# Altium footprint library MyPCB1.pcblib: 4 footprints
Each footprint in its own frame and in the unit in brackets; x right, y up, seen from the top. Pads: shape width x height; smd on the part's side, far side on the other; paste and mask are expansions set on the pad; w line width, h text height; cw(c..) or ccw(c..) is an arc to the next point about the centre after c.
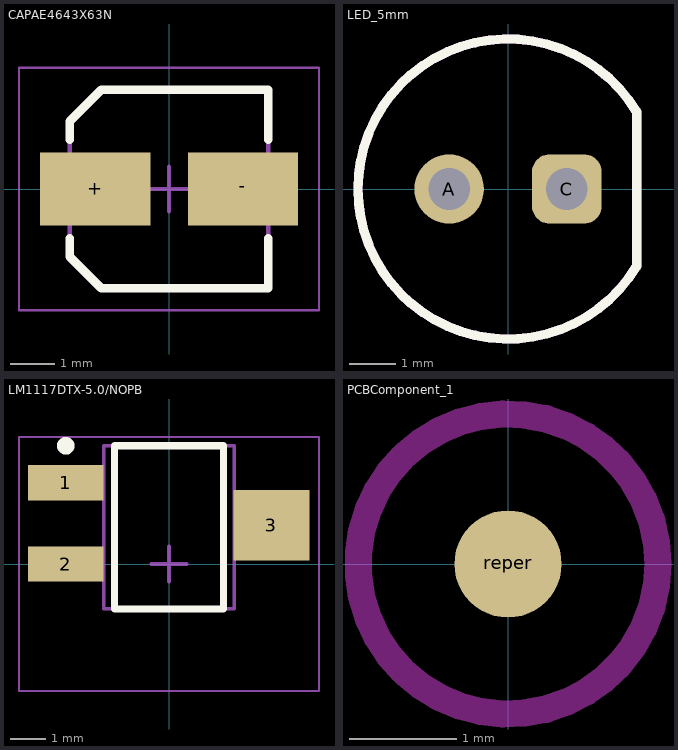
[diagram p0: the footprints below, top view; thin cyan lines are the x and y axes]

## CAPAE4643X63N [mm] "Aluminum Electrolytic Capacitor, Body 4,30x4,30x6,30mm, IPC Medium Density"
height 6.3
pads (2):
  rect 2.5x1.65 smd: +(-1.675,0) -(1.675,0)
Top Overlay:
  lines w0.2: -2.25,-1.125 -2.25,-1.538 -1.538,-2.25 2.25,-2.25 2.25,-1.125 ; -2.25,1.125 -2.25,1.538 -1.538,2.25 2.25,2.25 2.25,1.125
Mechanical 13:
  lines w0.1: -2.25,-1.538 -1.538,-2.25 2.25,-2.25 2.25,2.25 -1.538,2.25 -2.25,1.538 -2.25,-1.538
Mechanical 15:
  lines w0.05: -3.4,-2.75 -3.4,2.75 3.4,2.75 3.4,-2.75 -3.4,-2.75
  lines w0.1: -0.5,0 0.5,0 ; 0,-0.5 0,0.5
3D body "CAPAE4643X63N.step": height 6.3, standoff 0, extent -2.3,-2.25 2.3,2.25

## LED_5mm [mm]
pads (2):
  round 1.5 hole 0.9: A(-1.27,0)
  rrect50% 1.5x1.5 hole 0.9: C(1.27,0)
Top Overlay:
  lines w0.2: 2.776,-1.666 cw(c0,0) 2.776,1.666 2.776,-1.666
Mechanical 1:
  lines w0.2: 2.776,-1.666 cw(c0,0) 2.776,1.666 2.776,-1.666
  text ".Designator" at -4.826,4.572 h1.52
3D body "521-9466.step": height 10.71, standoff -0.6, extent -2.92,-2.92 2.415,2.92

## LM1117DTX-5.0/NOPB [mm] "SOT223, 4-Leads, Body 6,50x7,00mm (avg), Pitch 2,30mm, IPC Medium Density"
height 1.8
pads (3):
  rect 2.15x1 smd: 1(-2.925,2.3) 2(-2.925,0)
  rect 2.15x2 smd: 3(2.9,1.1)
Top Overlay:
  circle w0.25: c-2.925,3.35 r0.125
  lines w0.2: -1.55,-1.27 -1.55,3.35 1.55,3.35 1.55,-1.27 -1.55,-1.27
Mechanical 13:
  lines w0.1: -1.85,-1.27 -1.373,-1.27 -0.448,-1.27 ; -1.85,-1.212 -1.85,3.35 1.85,3.35 1.85,-1.27 ; 1.807,-1.27 1.359,-1.27 0,-1.27 -0.448,-1.27 ; -0.448,-1.27 0.462,-1.27 0.014,-1.27 -0.448,-1.27
Mechanical 15:
  lines w0.05: -4.25,-3.6 -4.25,3.6 4.25,3.6 4.25,-3.6 -4.25,-3.6
  lines w0.1: -0.5,0 0.5,0 ; 0,-0.5 0,0.5
3D body: height 1.8, standoff 0.02, extent -1.85,-1.27 1.85,3.35

## PCBComponent_1 [mm]
pads (1):
  round 1 smd paste+0 mask+1: reper(0,0)
Top Layer keep-out:
  circle w0.254: c0,0 r1.397